# Altium footprint library LIBRAIRIE PCB.PcbLib: 26 footprints (part 2 of 2)
Each footprint in its own frame and in the unit in brackets; x right, y up, seen from the top. Pads: shape width x height; smd on the part's side, far side on the other; paste and mask are expansions set on the pad; w line width, h text height; cw(c..) or ccw(c..) is an arc to the next point about the centre after c.
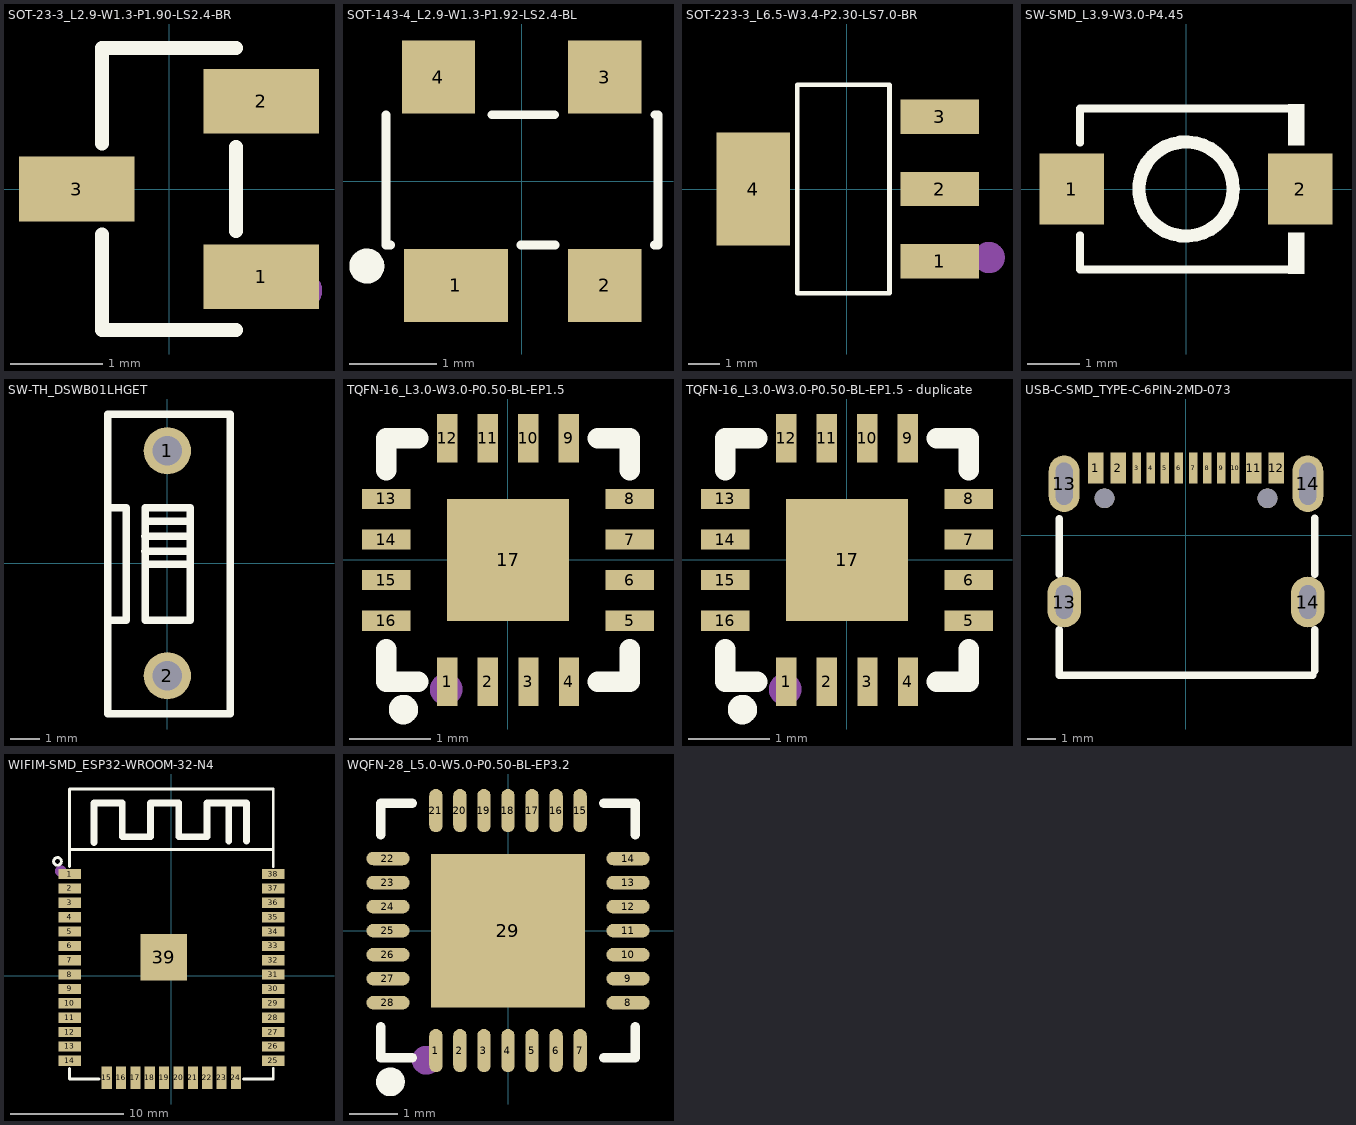
[diagram p1: the footprints below, top view; thin cyan lines are the x and y axes]

## SOT-23-3_L2.9-W1.3-P1.90-LS2.4-BR [mm]
pads (3):
  rect 1.25x0.7 smd paste+0 mask+0.051: 1(1,-0.95) 2(1,0.95) 3(-1,0)
Top Overlay:
  lines w0.152: -0.726,-0.495 -0.726,-1.526 0.726,-1.526 ; -0.726,0.495 -0.726,1.526 0.726,1.526 ; 0.726,-0.455 0.726,0.455
Mechanical 15:
  circle w0.2: c1.46,-1.1 r0.1

## SOT-143-4_L2.9-W1.3-P1.92-LS2.4-BL [mil]
pads (4):
  rect 47x33 smd paste+0 mask+2: 1(-29.53,-46.9)
  rect 33x33 smd paste+0 mask+2: 2(37.4,-46.9) 3(37.4,46.91) 4(-37.41,46.91)
Top Overlay:
  circle w7.87: c-69.69,-38.19 r3.94
  lines w3.94: -61.03,29.92 -61.03,-28.74 -58.87,-28.74 ; -13.39,29.92 14.85,29.92 ; -0.2,-28.74 15.07,-28.74 ; 59.73,-28.74 61.41,-28.74 61.41,29.92 59.95,29.92
Mechanical 15:
  circle w7.87: c-35.43,-55.12 r3.94

## SOT-223-3_L6.5-W3.4-P2.30-LS7.0-BR [mm]
pads (4):
  rect 2.5x1.1 smd paste+0 mask+0.051: 1(2.97,-2.3) 2(2.97,0) 3(2.97,2.3)
  rect 2.34x3.6 smd paste+0 mask+0.051: 4(-2.97,0)
Top Overlay:
  lines w0.152: -1.571,-3.326 -1.571,3.326 1.371,3.326 1.371,-3.326 -1.571,-3.326
Mechanical 15:
  circle w0.5: c4.552,-2.188 r0.25

## SW-SMD_L3.9-W3.0-P4.45 [mm]
pads (2):
  rect 1.23x1.36 smd paste+0 mask+0.051: 1(-2.185,0) 2(2.185,0)
Top Overlay:
  circle w0.254: c0,0 r0.9
  region: 1.95,-1.617 1.95,-0.832 2.255,-0.832 2.255,-1.617
  region: 1.95,1.617 1.95,0.832 2.255,0.832 2.255,1.617
  lines w0.152: -2.026,-0.883 -2.026,-1.541 2.026,-1.541 ; -2.026,0.883 -2.026,1.541 2.026,1.541

## SW-TH_DSWB01LHGET [mm]
pads (2):
  round 1.6 hole 1 paste-2539.97 mask+0.051: 1(0,3.81) 2(0,-3.81)
Top Overlay:
  lines w0.254: -2.022,1.879 -1.387,1.879 -1.387,-1.931 -2.022,-1.931 ; -0.761,0.415 0.639,0.415 ; -0.761,0.915 0.639,0.915 ; -0.72,-0.026 0.68,-0.026 ; -0.702,1.415 0.698,1.415 ; -2.022,-1.931 -2.022,-5.106 2.134,-5.106 2.134,5.054 -2.022,5.054 -2.022,-1.931 ; -0.752,-1.931 0.772,-1.931 0.772,1.879 -0.752,1.879 -0.752,-1.931
Mechanical 15:
  text "1" at -0.178,-2.385 h0.51

## TQFN-16_L3.0-W3.0-P0.50-BL-EP1.5 [mm]
pads (17):
  rect 0.25x0.6 smd paste-100 mask+0.051: 1(-0.749,-1.5) 2(-0.248,-1.5) 3(0.251,-1.5) 4(0.752,-1.5) 9(0.75,1.5) 10(0.25,1.5) 11(-0.25,1.5) 12(-0.749,1.5)
  rect 0.6x0.25 smd paste-100 mask+0.051: 5(1.5,-0.748) 6(1.5,-0.248) 7(1.5,0.252) 8(1.5,0.752) 13(-1.5,0.752) 14(-1.5,0.252) 15(-1.5,-0.248) 16(-1.5,-0.748)
  rect 1.5x1.5 smd paste-100 mask+0.051: 17(0,0)
Top Overlay:
  circle w0.254: c-1.289,-1.845 r0.054
  lines w0.254: -1.5,-1.104 -1.5,-1.5 -1.105,-1.5 ; -1.5,1.108 -1.5,1.5 -1.105,1.5 ; 1.106,1.5 1.5,1.5 1.5,1.108 ; 1.108,-1.5 1.5,-1.5 1.5,-1.104
Top Paste:
  region: -1.8,-0.873 -1.8,-0.623 -1.2,-0.623 -1.2,-0.873
  region: -1.8,-0.373 -1.8,-0.123 -1.2,-0.123 -1.2,-0.373
  region: -1.8,0.127 -1.8,0.377 -1.2,0.377 -1.2,0.127
  region: -1.8,0.627 -1.8,0.877 -1.2,0.877 -1.2,0.627
  region: -0.873,1.8 -0.623,1.8 -0.623,1.2 -0.873,1.2
  region: -0.375,1.8 -0.125,1.8 -0.125,1.2 -0.375,1.2
  region: 0.125,1.8 0.375,1.8 0.375,1.2 0.125,1.2
  region: 0.625,1.8 0.875,1.8 0.875,1.2 0.625,1.2
  region: 1.8,0.877 1.8,0.627 1.2,0.627 1.2,0.877
  region: 1.8,0.377 1.8,0.127 1.2,0.127 1.2,0.377
  region: 1.8,-0.123 1.8,-0.373 1.2,-0.373 1.2,-0.123
  region: 1.8,-0.623 1.8,-0.873 1.2,-0.873 1.2,-0.623
  region: 0.877,-1.8 0.627,-1.8 0.627,-1.2 0.877,-1.2
  region: 0.377,-1.8 0.127,-1.8 0.127,-1.2 0.377,-1.2
  region: -0.123,-1.8 -0.373,-1.8 -0.373,-1.2 -0.123,-1.2
  region: -0.623,-1.8 -0.873,-1.8 -0.873,-1.2 -0.623,-1.2
  region: -0.6,-0.6 -0.6,0.6 0.6,0.6 0.6,-0.6
Mechanical 15:
  circle w0.2: c-0.762,-1.596 r0.1

## TQFN-16_L3.0-W3.0-P0.50-BL-EP1.5 - duplicate [mm]
pads (17):
  rect 0.25x0.6 smd paste-100 mask+0.051: 1(-0.749,-1.5) 2(-0.248,-1.5) 3(0.251,-1.5) 4(0.752,-1.5) 9(0.75,1.5) 10(0.25,1.5) 11(-0.25,1.5) 12(-0.749,1.5)
  rect 0.6x0.25 smd paste-100 mask+0.051: 5(1.5,-0.748) 6(1.5,-0.248) 7(1.5,0.252) 8(1.5,0.752) 13(-1.5,0.752) 14(-1.5,0.252) 15(-1.5,-0.248) 16(-1.5,-0.748)
  rect 1.5x1.5 smd paste-100 mask+0.051: 17(0,0)
Top Overlay:
  circle w0.254: c-1.289,-1.845 r0.054
  lines w0.254: -1.5,-1.104 -1.5,-1.5 -1.105,-1.5 ; -1.5,1.108 -1.5,1.5 -1.105,1.5 ; 1.106,1.5 1.5,1.5 1.5,1.108 ; 1.108,-1.5 1.5,-1.5 1.5,-1.104
Top Paste:
  region: -1.8,-0.873 -1.8,-0.623 -1.2,-0.623 -1.2,-0.873
  region: -1.8,-0.373 -1.8,-0.123 -1.2,-0.123 -1.2,-0.373
  region: -1.8,0.127 -1.8,0.377 -1.2,0.377 -1.2,0.127
  region: -1.8,0.627 -1.8,0.877 -1.2,0.877 -1.2,0.627
  region: -0.873,1.8 -0.623,1.8 -0.623,1.2 -0.873,1.2
  region: -0.375,1.8 -0.125,1.8 -0.125,1.2 -0.375,1.2
  region: 0.125,1.8 0.375,1.8 0.375,1.2 0.125,1.2
  region: 0.625,1.8 0.875,1.8 0.875,1.2 0.625,1.2
  region: 1.8,0.877 1.8,0.627 1.2,0.627 1.2,0.877
  region: 1.8,0.377 1.8,0.127 1.2,0.127 1.2,0.377
  region: 1.8,-0.123 1.8,-0.373 1.2,-0.373 1.2,-0.123
  region: 1.8,-0.623 1.8,-0.873 1.2,-0.873 1.2,-0.623
  region: 0.877,-1.8 0.627,-1.8 0.627,-1.2 0.877,-1.2
  region: 0.377,-1.8 0.127,-1.8 0.127,-1.2 0.377,-1.2
  region: -0.123,-1.8 -0.373,-1.8 -0.373,-1.2 -0.123,-1.2
  region: -0.623,-1.8 -0.873,-1.8 -0.873,-1.2 -0.623,-1.2
  region: -0.6,-0.6 -0.6,0.6 0.6,0.6 0.6,-0.6
Mechanical 15:
  circle w0.2: c-0.762,-1.596 r0.1

## USB-C-SMD_TYPE-C-6PIN-2MD-073 [mm]
pads (18):
  rect 0.55x1.1 smd paste-100 mask+0.05: 1(-3.2,2.375) 2(-2.4,2.375) 11(2.4,2.375) 12(3.2,2.375)
  rect 0.3x1.1 smd paste-100 mask+0.05: 3(-1.75,2.375) 4(-1.25,2.375) 5(-0.75,2.375) 6(-0.25,2.375) 7(0.25,2.375) 8(0.75,2.375) 9(1.25,2.375) 10(1.75,2.375)
  oval 1.2x1.8 hole 0.6 slot 1.2 at 90 deg paste-2539.97 mask+0.05: 13(-4.325,-2.375) 14(4.325,-2.375)
  oval 1.1x2 hole 0.6 slot 1.5 at 90 deg paste-2539.97 mask+0.05: 13(-4.325,1.825) 14(4.325,1.825)
  round 0.7 hole 0.7 unplated paste-2539.97: ""(-2.89,1.305) ""(2.89,1.305)
Top Overlay:
  lines w0.254: -4.5,-3.356 -4.5,-4.975 4.5,-4.975 ; -4.5,-1.394 -4.5,0.594 ; 4.572,-4.826 4.572,-3.353 ; 4.572,-1.397 4.572,0.597
Top Paste:
  drawing of 16 lines, arcs and shapes, not listed
Mechanical 15:
  circle w0.25: c-2.89,1.305 r0.125
  circle w0.25: c2.89,1.305 r0.125

## WIFIM-SMD_ESP32-WROOM-32-N4 [mm]
pads (39):
  rect 2x0.9 smd paste+0 mask+0.05: 1(-9,9.005) 2(-9,7.735) 3(-9,6.465) 4(-9,5.195) 5(-9,3.925) 6(-9,2.655) 7(-9,1.385) 8(-9,0.115) 9(-9,-1.155) 10(-9,-2.425) 11(-9,-3.695) 12(-9,-4.965) 13(-9,-6.235) 14(-9,-7.505) 25(9,-7.505) 26(9,-6.235) 27(9,-4.965) 28(9,-3.695) 29(9,-2.425) 30(9,-1.155) 31(9,0.115) 32(9,1.385) 33(9,2.655) 34(9,3.925) 35(9,5.195) 36(9,6.465) 37(9,7.735) 38(9,9.005)
  rect 0.9x2 smd paste+0 mask+0.05: 15(-5.715,-9.005) 16(-4.445,-9.005) 17(-3.175,-9.005) 18(-1.905,-9.005) 19(-0.635,-9.005) 20(0.635,-9.005) 21(1.905,-9.005) 22(3.175,-9.005) 23(4.445,-9.005) 24(5.715,-9.005)
  rect 4.1x4.1 smd paste+0 mask+0.05: 39(-0.68,1.665)
Top Overlay:
  circle w0.254: c-10.07,10.127 r0.342
  lines w0.254: -9.017,-8.186 -9.017,-9.131 -6.396,-9.131 ; -9.017,9.686 -9.017,16.069 -9.017,16.535 9.02,16.535 9.02,16.069 ; -9.017,11.169 9.017,11.169 ; 6.396,-9.131 9.017,-9.131 9.017,-8.186 ; 9.017,9.686 9.017,16.069
  lines w0.6: -6.85,11.805 -6.85,15.305 -4.35,15.305 ; -4.351,15.304 -4.351,12.304 -1.849,12.304 -1.849,15.304 0.65,15.304 0.65,12.304 3.149,12.304 3.149,15.304 6.65,15.304 6.65,11.937 ; 5.08,11.937 5.08,15.304
Mechanical 15:
  circle w0.5: c-9.78,9.277 r0.25

## WQFN-28_L5.0-W5.0-P0.50-BL-EP3.2 [mm]
pads (29):
  oval 0.28x0.9 smd paste-100 mask+0.051: 1(-1.501,-2.5) 2(-1.001,-2.5) 3(-0.501,-2.5) 4(0,-2.5) 5(0.5,-2.5) 6(1.001,-2.5) 7(1.501,-2.5) 15(1.501,2.5) 16(1.001,2.5) 17(0.5,2.5) 18(0,2.5) 19(-0.501,2.5) 20(-1.001,2.5) 21(-1.501,2.5)
  oval 0.9x0.28 smd paste-100 mask+0.051: 8(2.5,-1.501) 9(2.5,-1.001) 10(2.5,-0.5) 11(2.5,0) 12(2.5,0.5) 13(2.5,1.001) 14(2.5,1.501) 22(-2.5,1.501) 23(-2.5,1.001) 24(-2.5,0.5) 25(-2.5,0) 26(-2.5,-0.5) 27(-2.5,-1.001) 28(-2.5,-1.501)
  rect 3.2x3.2 smd paste-100 mask+0.051: 29(0,0)
Top Overlay:
  lines w0.2: -2.65,-2 -2.65,-2.65 -2,-2.65 ; -2.65,2 -2.65,2.65 -2,2.65 ; 2,-2.65 2.65,-2.65 2.65,-2 ; 2,2.65 2.65,2.65 2.65,2
  lines w0.3: -2.451,-3 ccw(c-2.45,-3.15) -2.449,-3
Top Paste:
  drawing of 29 lines, arcs and shapes, not listed
Mechanical 15:
  circle w0.3: c-1.7,-2.7 r0.15